# Altium integrated library NSC Analog.IntLib: 134 symbols (part 2 of 4)
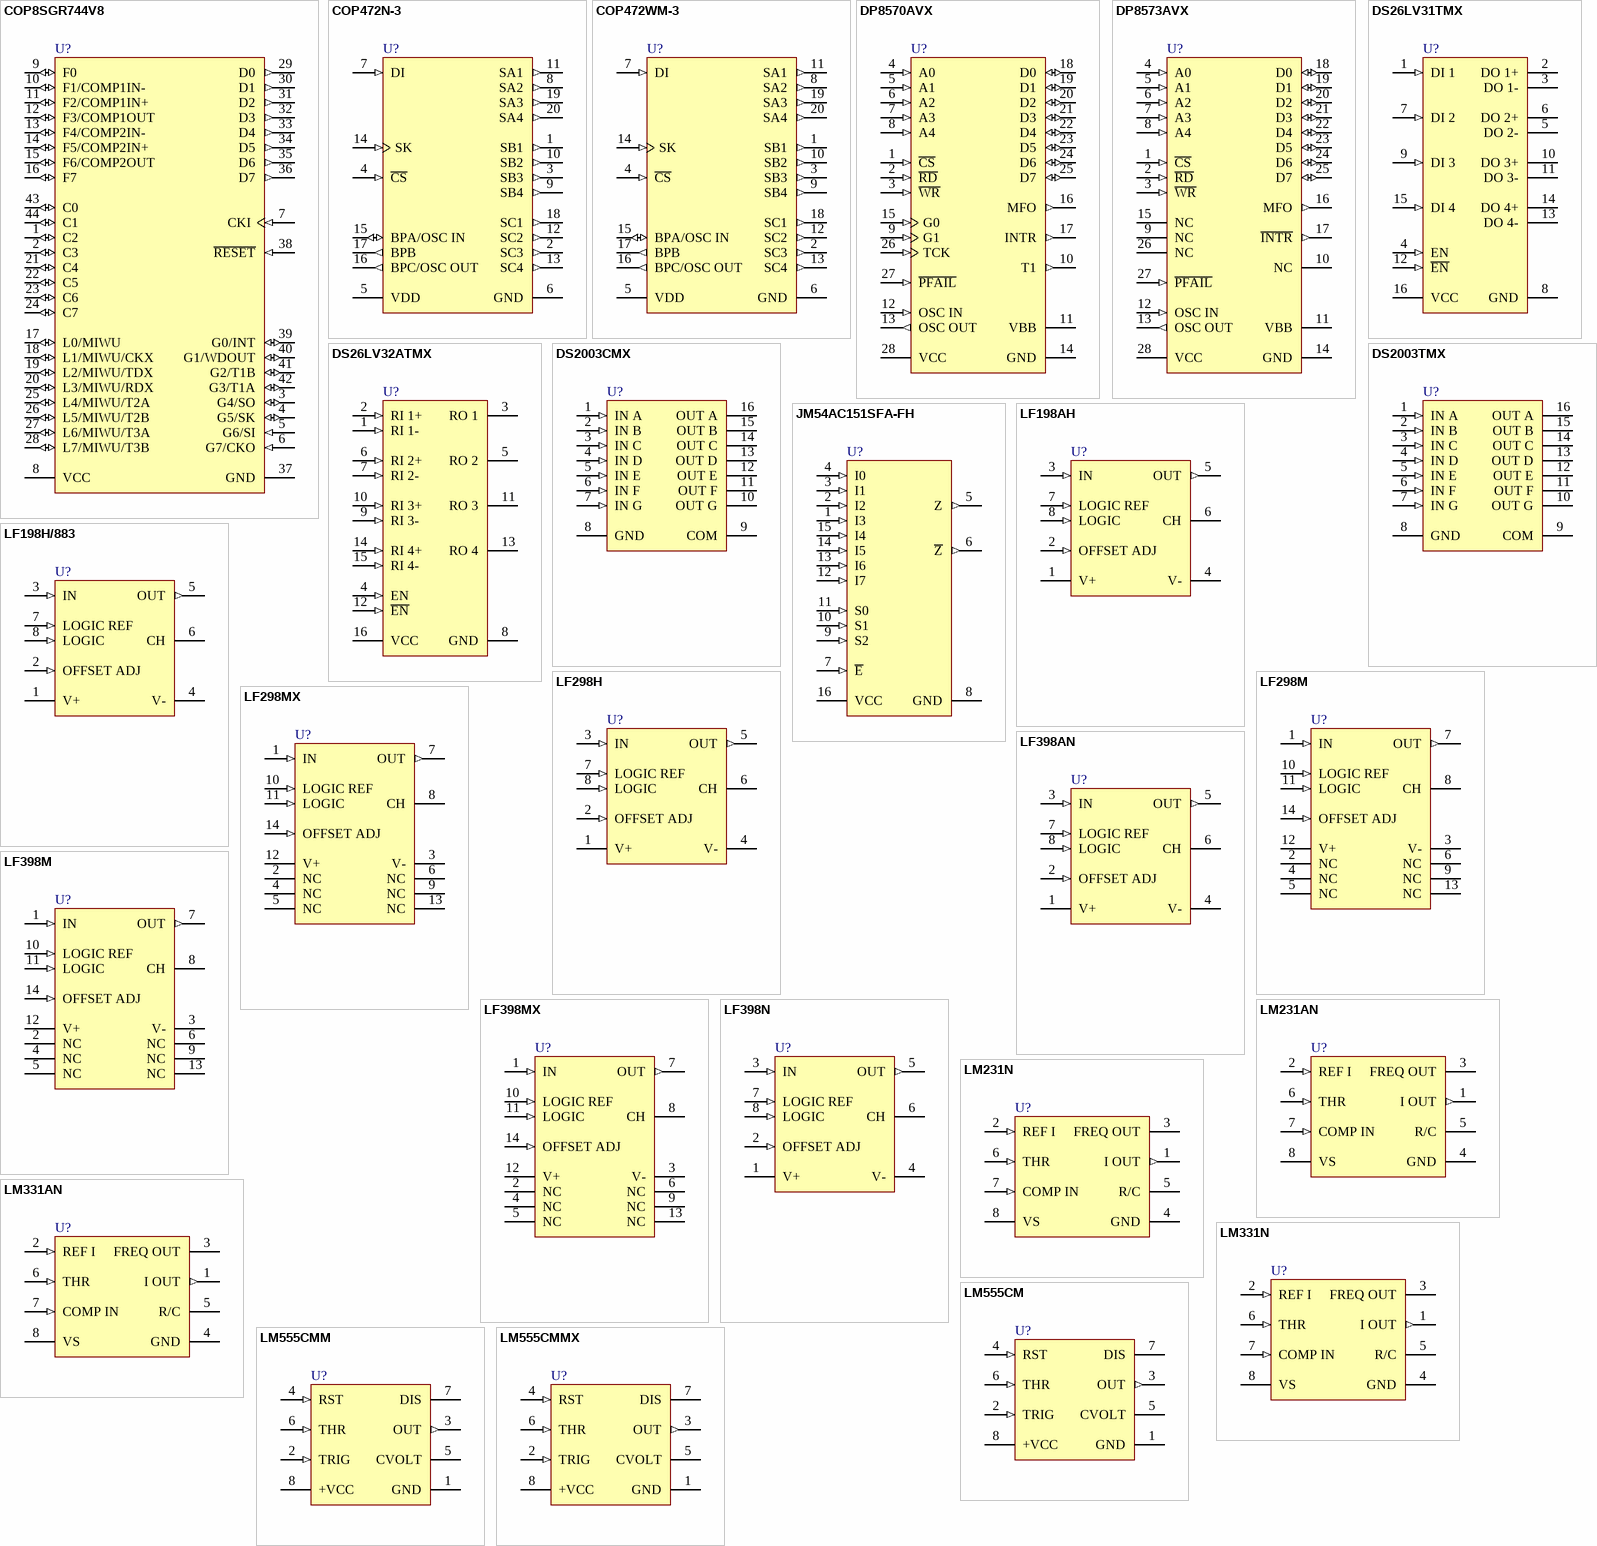
[diagram p7: symbols COP8SGR744V8 to LM555CMMX]

## DS26LV32ATMX
designator U?
3V Enhanced CMOS Quad Differential Line Receiver; PartNumber: DS26LV32ATMX; Manufacturer: National Semiconductor; CompType: Analog IC; PackageTopMarking: NSUZXYTT*DS26LV32A*TM; Published: 4-Dec-2008; DatasheetVersion: Mar-2000; PackageVersion: revJ, Aug-1995; PackageReference: M16A; Publisher: Altium Limited; PackageDescription: Molded Package, SO, .150in Wide, 16 Lead; PinCount: 16; DigiKeyPartNumber: DS26LV32ATMX-ND; Code_JEDEC: MS-012-AC; Code_IPC: SOIC127P600-16; ComponentLink1Description: DS26LV32AT Datasheet; ComponentLink1URL: http://www.national.com/ds.cgi/DS/DS26LV32AT.pdf; ComponentLink2Description: DS26LV32AT Web Page; ComponentLink2URL: http://www.national.com/pf/DS/DS26LV32AT.html; ComponentLink3Description: M16A package page; ComponentLink3URL: http://www.national.com/packaging/folders/m16a.html
footprint M16A_N (SOIC, 16-Leads, Body 9.9x3.9mm, Pitch 1.27mm, IPC Medium Density)
footprint M16A_L (SOIC, 16-Leads, Body 9.9x3.9mm, Pitch 1.27mm, IPC High Density)
footprint M16A_M (SOIC, 16-Leads, Body 9.9x3.9mm, Pitch 1.27mm, IPC Low Density)
pins: 1 RI 1- (in), 2 RI 1+ (in), 3 RO 1 (hiz), 4 EN (in), 5 RO 2 (hiz), 6 RI 2+ (in), 7 RI 2- (in), 8 GND (power), 9 RI 3- (in), 10 RI 3+ (in), 11 RO 3 (hiz), 12 ~{EN} (in), 13 RO 4 (hiz), 14 RI 4+ (in), 15 RI 4- (in), 16 VCC (power)

## DS2003CMX
designator U?
High Current/Voltage Darlington Drivers; PartNumber: DS2003CMX; Manufacturer: National Semiconductor; CompType: Analog IC; PackageTopMarking: NSUZXYTT*DS2003CM; Published: 4-Dec-2008; DatasheetVersion: Mar-2005; PackageVersion: revJ, Aug-1995; PackageReference: M16A; Publisher: Altium Limited; PackageDescription: Molded Package, SO, .150in Wide, 16 Lead; PinCount: 16; DigiKeyPartNumber: DS2003CMXCT-ND; Code_JEDEC: MS-012-AC; Code_IPC: SOIC127P600-16; ComponentLink1Description: DS2003 Datasheet; ComponentLink1URL: http://www.national.com/ds.cgi/DS/DS2003.pdf; ComponentLink2Description: DS2003 Web Page; ComponentLink2URL: http://www.national.com/pf/DS/DS2003.html; ComponentLink3Description: M16A package page; ComponentLink3URL: http://www.national.com/packaging/folders/m16a.html
footprint M16A_N (SOIC, 16-Leads, Body 9.9x3.9mm, Pitch 1.27mm, IPC Medium Density)
footprint M16A_L (SOIC, 16-Leads, Body 9.9x3.9mm, Pitch 1.27mm, IPC High Density)
footprint M16A_M (SOIC, 16-Leads, Body 9.9x3.9mm, Pitch 1.27mm, IPC Low Density)
pins: 1 IN A (in), 2 IN B (in), 3 IN C (in), 4 IN D (in), 5 IN E (in), 6 IN F (in), 7 IN G (in), 8 GND (power), 9 COM, 10 OUT G (oc), 11 OUT F (oc), 12 OUT E (oc), 13 OUT D (oc), 14 OUT C (oc), 15 OUT B (oc), 16 OUT A (oc)

## DS2003TMX
designator U?
High Current/Voltage Darlington Drivers; PartNumber: DS2003TMX; Manufacturer: National Semiconductor; CompType: Analog IC; PackageTopMarking: NSUZXYTT*DS2003TM; Published: 4-Dec-2008; DatasheetVersion: Mar-2005; PackageVersion: revJ, Aug-1995; PackageReference: M16A; Publisher: Altium Limited; PackageDescription: Molded Package, SO, .150in Wide, 16 Lead; PinCount: 16; DigiKeyPartNumber: DS2003TMX-ND; Code_JEDEC: MS-012-AC; Code_IPC: SOIC127P600-16; ComponentLink1Description: DS2003 Datasheet; ComponentLink1URL: http://www.national.com/ds.cgi/DS/DS2003.pdf; ComponentLink2Description: DS2003 Web Page; ComponentLink2URL: http://www.national.com/pf/DS/DS2003.html; ComponentLink3Description: M16A package page; ComponentLink3URL: http://www.national.com/packaging/folders/m16a.html
footprint M16A_N (SOIC, 16-Leads, Body 9.9x3.9mm, Pitch 1.27mm, IPC Medium Density)
footprint M16A_L (SOIC, 16-Leads, Body 9.9x3.9mm, Pitch 1.27mm, IPC High Density)
footprint M16A_M (SOIC, 16-Leads, Body 9.9x3.9mm, Pitch 1.27mm, IPC Low Density)
pins: 1 IN A (in), 2 IN B (in), 3 IN C (in), 4 IN D (in), 5 IN E (in), 6 IN F (in), 7 IN G (in), 8 GND (power), 9 COM, 10 OUT G (oc), 11 OUT F (oc), 12 OUT E (oc), 13 OUT D (oc), 14 OUT C (oc), 15 OUT B (oc), 16 OUT A (oc)

## JM54AC151SFA-FH
designator U?
8-Input Multiplexer; PartNumber: JM54AC151SFA-FH; Manufacturer: National Semiconductor; CompType: Analog IC; PackageTopMarking: NSZSSXXYYA*27014 Q*JM38510F*76201SFA; Published: 4-Dec-2008; DatasheetVersion: Jul-2003; PackageVersion: revT, Jul-2005; PackageReference: W16A; Publisher: Altium Limited; PackageDescription: Cerpack, .390 x .250 x .074in Body, 16 Lead, .050in Pitch; PinCount: 16; Code_JEDEC: MO-092-AC; ComponentLink1Description: 54AC151 Datasheet; ComponentLink1URL: http://www.national.com/ds.cgi/54/54AC151.pdf; ComponentLink2Description: 54AC151 Web Page; ComponentLink2URL: http://www.national.com/pf/54/54AC151.html; ComponentLink3Description: W16A package page; ComponentLink3URL: http://www.national.com/packaging/folders/w16a.html
footprint W16A (DFP; 16 Leads; Body 9.9 x 7.6 mm (LxW max); Pitch 1.27 mm)
pins: 1 I3 (in), 2 I2 (in), 3 I1 (in), 4 I0 (in), 5 Z (out), 6 ~{Z} (out), 7 ~{E} (in), 8 GND (power), 9 S2 (in), 10 S1 (in), 11 S0 (in), 12 I7 (in), 13 I6 (in), 14 I5 (in), 15 I4 (in), 16 VCC (power)

## LF198AH
designator U?
Monolithic Sample-and-Hold Circuits; PartNumber: LF198AH; Manufacturer: National Semiconductor; CompType: Analog IC; PackageTopMarking: NSZXYTTE# LF198AH; Published: 4-Dec-2008; DatasheetVersion: Jul-2000; PackageVersion: revF, Jun-1995; PackageReference: H08C; Publisher: Altium Limited; PackageDescription: Metal Can, TO-99, 8 Lead, .200 Dia., P.C.; PinCount: 8; Code_JEDEC: TO-99; ComponentLink1Description: LF198 Datasheet; ComponentLink1URL: http://www.national.com/ds.cgi/LF/LF198.pdf; ComponentLink2Description: LF198 Web Page; ComponentLink2URL: http://www.national.com/pf/LF/LF198.html; ComponentLink3Description: H08C package page; ComponentLink3URL: http://www.national.com/packaging/folders/h08c.html
footprint H08C (Can; 8 Leads; Pin Circle Dia. 5.08 mm; Lead Dia. 0.48 mm (max))
pins: 1 V+ (power), 2 OFFSET ADJ (in), 3 IN (in), 4 V- (power), 5 OUT (out), 6 CH, 7 LOGIC REF (in), 8 LOGIC (in)

## LF198H/883
designator U?
Monolithic Sample-and-Hold Circuits; PartNumber: LF198H/883; Manufacturer: National Semiconductor; CompType: Analog IC; PackageTopMarking: NSZSSXXYYA LF198H/883 Q*5962-8760801GA; Published: 4-Dec-2008; DatasheetVersion: Jul-2000; PackageVersion: revF, Jun-1995; PackageReference: H08C; Publisher: Altium Limited; PackageDescription: Metal Can, TO-99, 8 Lead, .200 Dia., P.C.; PinCount: 8; Code_JEDEC: TO-99; ComponentLink1Description: LF198 Datasheet; ComponentLink1URL: http://www.national.com/ds.cgi/LF/LF198.pdf; ComponentLink2Description: LF198 Web Page; ComponentLink2URL: http://www.national.com/pf/LF/LF198.html; ComponentLink3Description: H08C package page; ComponentLink3URL: http://www.national.com/packaging/folders/h08c.html
footprint H08C (Can; 8 Leads; Pin Circle Dia. 5.08 mm; Lead Dia. 0.48 mm (max))
pins: 1 V+ (power), 2 OFFSET ADJ (in), 3 IN (in), 4 V- (power), 5 OUT (out), 6 CH, 7 LOGIC REF (in), 8 LOGIC (in)

## LF298H
designator U?
Monolithic Sample-and-Hold Circuits; PartNumber: LF298H; Manufacturer: National Semiconductor; CompType: Analog IC; PackageTopMarking: NSZXYTTE# LF298H; Published: 4-Dec-2008; DatasheetVersion: Jul-2000; PackageVersion: revF, Jun-1995; PackageReference: H08C; Publisher: Altium Limited; PackageDescription: Metal Can, TO-99, 8 Lead, .200 Dia., P.C.; PinCount: 8; Code_JEDEC: TO-99; ComponentLink1Description: LF298 Datasheet; ComponentLink1URL: http://www.national.com/ds.cgi/LF/LF298.pdf; ComponentLink2Description: LF298 Web Page; ComponentLink2URL: http://www.national.com/pf/LF/LF298.html; ComponentLink3Description: H08C package page; ComponentLink3URL: http://www.national.com/packaging/folders/h08c.html
footprint H08C (Can; 8 Leads; Pin Circle Dia. 5.08 mm; Lead Dia. 0.48 mm (max))
pins: 1 V+ (power), 2 OFFSET ADJ (in), 3 IN (in), 4 V- (power), 5 OUT (out), 6 CH, 7 LOGIC REF (in), 8 LOGIC (in)

## LF298M
designator U?
Monolithic Sample-and-Hold Circuits; PartNumber: LF298M; Manufacturer: National Semiconductor; CompType: Analog IC; PackageTopMarking: NSUZXYTT*LF298M; Published: 4-Dec-2008; DatasheetVersion: Jul-2000; PackageVersion: revJ, Jan-1996; PackageReference: M14A; Publisher: Altium Limited; PackageDescription: Molded Package S.O., .150in Wide, 14 Lead; PinCount: 14; DigiKeyPartNumber: LF298M-ND; Code_JEDEC: MS-012AB; Code_IPC: SOIC127P600-14; ComponentLink1Description: LF298 Datasheet; ComponentLink1URL: http://www.national.com/ds.cgi/LF/LF298.pdf; ComponentLink2Description: LF298 Web Page; ComponentLink2URL: http://www.national.com/pf/LF/LF298.html; ComponentLink3Description: M14A package page; ComponentLink3URL: http://www.national.com/packaging/folders/m14a.html
footprint M14A_N (SOIC, 14-Leads, Body 8.6x3.9mm, Pitch 1.27mm, IPC Medium Density)
footprint M14A_L (SOIC, 14-Leads, Body 8.6x3.9mm, Pitch 1.27mm, IPC High Density)
footprint M14A_M (SOIC, 14-Leads, Body 8.6x3.9mm, Pitch 1.27mm, IPC Low Density)
pins: 1 IN (in), 2 NC, 3 V- (power), 4 NC, 5 NC, 6 NC, 7 OUT (out), 8 CH, 9 NC, 10 LOGIC REF (in), 11 LOGIC (in), 12 V+ (power), 13 NC, 14 OFFSET ADJ (in)

## LF298MX
designator U?
Monolithic Sample-and-Hold Circuits; PartNumber: LF298MX; Manufacturer: National Semiconductor; CompType: Analog IC; PackageTopMarking: NSUZXYTT*LF298M; Published: 4-Dec-2008; DatasheetVersion: Jul-2000; PackageVersion: revJ, Jan-1996; PackageReference: M14A; Publisher: Altium Limited; PackageDescription: Molded Package S.O., .150in Wide, 14 Lead; PinCount: 14; DigiKeyPartNumber: LF298MX-ND; Code_JEDEC: MS-012AB; Code_IPC: SOIC127P600-14; ComponentLink1Description: LF298 Datasheet; ComponentLink1URL: http://www.national.com/ds.cgi/LF/LF298.pdf; ComponentLink2Description: LF298 Web Page; ComponentLink2URL: http://www.national.com/pf/LF/LF298.html; ComponentLink3Description: M14A package page; ComponentLink3URL: http://www.national.com/packaging/folders/m14a.html
footprint M14A_N (SOIC, 14-Leads, Body 8.6x3.9mm, Pitch 1.27mm, IPC Medium Density)
footprint M14A_L (SOIC, 14-Leads, Body 8.6x3.9mm, Pitch 1.27mm, IPC High Density)
footprint M14A_M (SOIC, 14-Leads, Body 8.6x3.9mm, Pitch 1.27mm, IPC Low Density)
pins: 1 IN (in), 2 NC, 3 V- (power), 4 NC, 5 NC, 6 NC, 7 OUT (out), 8 CH, 9 NC, 10 LOGIC REF (in), 11 LOGIC (in), 12 V+ (power), 13 NC, 14 OFFSET ADJ (in)

## LF398AN
designator U?
Monolithic Sample-and-Hold Circuits; PartNumber: LF398AN; Manufacturer: National Semiconductor; CompType: Analog IC; PackageTopMarking: NSUZXYTT*LF*398AN; Published: 4-Dec-2008; DatasheetVersion: Jul-2000; PackageVersion: revG, May-2006; PackageReference: N08E; Publisher: Altium Limited; PackageDescription: MDIP, .365 x .250 x .130in, 8 Lead, .100in Pitch; PinCount: 8; DigiKeyPartNumber: LF398AN-ND; Code_JEDEC: MS-001-BA; ComponentLink1Description: LF398 Datasheet; ComponentLink1URL: http://www.national.com/ds.cgi/LF/LF398.pdf; ComponentLink2Description: LF398 Web Page; ComponentLink2URL: http://www.national.com/pf/LF/LF398.html; ComponentLink3Description: N08E package page; ComponentLink3URL: http://www.national.com/packaging/folders/n08e.html
footprint N08E (DIP, 8-Leads, Row Spacing 7.62mm, Pitch 2.54mm, Body 9.91x6.35mm)
pins: 1 V+ (power), 2 OFFSET ADJ (in), 3 IN (in), 4 V- (power), 5 OUT (out), 6 CH, 7 LOGIC REF (in), 8 LOGIC (in)

## LF398M
designator U?
Monolithic Sample-and-Hold Circuits; PartNumber: LF398M; Manufacturer: National Semiconductor; CompType: Analog IC; PackageTopMarking: NSUZXYTT*LF398M; Published: 4-Dec-2008; DatasheetVersion: Jul-2000; PackageVersion: revJ, Jan-1996; PackageReference: M14A; Publisher: Altium Limited; PackageDescription: Molded Package S.O., .150in Wide, 14 Lead; PinCount: 14; DigiKeyPartNumber: LF398M-ND; Code_JEDEC: MS-012AB; Code_IPC: SOIC127P600-14; ComponentLink1Description: LF398 Datasheet; ComponentLink1URL: http://www.national.com/ds.cgi/LF/LF398.pdf; ComponentLink2Description: LF398 Web Page; ComponentLink2URL: http://www.national.com/pf/LF/LF398.html; ComponentLink3Description: M14A package page; ComponentLink3URL: http://www.national.com/packaging/folders/m14a.html
footprint M14A_N (SOIC, 14-Leads, Body 8.6x3.9mm, Pitch 1.27mm, IPC Medium Density)
footprint M14A_L (SOIC, 14-Leads, Body 8.6x3.9mm, Pitch 1.27mm, IPC High Density)
footprint M14A_M (SOIC, 14-Leads, Body 8.6x3.9mm, Pitch 1.27mm, IPC Low Density)
pins: 1 IN (in), 2 NC, 3 V- (power), 4 NC, 5 NC, 6 NC, 7 OUT (out), 8 CH, 9 NC, 10 LOGIC REF (in), 11 LOGIC (in), 12 V+ (power), 13 NC, 14 OFFSET ADJ (in)

## LF398MX
designator U?
Monolithic Sample-and-Hold Circuits; PartNumber: LF398MX; Manufacturer: National Semiconductor; CompType: Analog IC; PackageTopMarking: NSUZXYTT*LF398M; Published: 4-Dec-2008; DatasheetVersion: Jul-2000; PackageVersion: revJ, Jan-1996; PackageReference: M14A; Publisher: Altium Limited; PackageDescription: Molded Package S.O., .150in Wide, 14 Lead; PinCount: 14; DigiKeyPartNumber: LF398MX-ND; Code_JEDEC: MS-012AB; Code_IPC: SOIC127P600-14; ComponentLink1Description: LF398 Datasheet; ComponentLink1URL: http://www.national.com/ds.cgi/LF/LF398.pdf; ComponentLink2Description: LF398 Web Page; ComponentLink2URL: http://www.national.com/pf/LF/LF398.html; ComponentLink3Description: M14A package page; ComponentLink3URL: http://www.national.com/packaging/folders/m14a.html
footprint M14A_N (SOIC, 14-Leads, Body 8.6x3.9mm, Pitch 1.27mm, IPC Medium Density)
footprint M14A_L (SOIC, 14-Leads, Body 8.6x3.9mm, Pitch 1.27mm, IPC High Density)
footprint M14A_M (SOIC, 14-Leads, Body 8.6x3.9mm, Pitch 1.27mm, IPC Low Density)
pins: 1 IN (in), 2 NC, 3 V- (power), 4 NC, 5 NC, 6 NC, 7 OUT (out), 8 CH, 9 NC, 10 LOGIC REF (in), 11 LOGIC (in), 12 V+ (power), 13 NC, 14 OFFSET ADJ (in)

## LF398N
designator U?
Monolithic Sample-and-Hold Circuits; PartNumber: LF398N; Manufacturer: National Semiconductor; CompType: Analog IC; PackageTopMarking: NSUZXYTT*LF*398N; Published: 4-Dec-2008; DatasheetVersion: Jul-2000; PackageVersion: revG, May-2006; PackageReference: N08E; Publisher: Altium Limited; PackageDescription: MDIP, .365 x .250 x .130in, 8 Lead, .100in Pitch; PinCount: 8; DigiKeyPartNumber: LF398N-ND; Code_JEDEC: MS-001-BA; ComponentLink1Description: LF398 Datasheet; ComponentLink1URL: http://www.national.com/ds.cgi/LF/LF398.pdf; ComponentLink2Description: LF398 Web Page; ComponentLink2URL: http://www.national.com/pf/LF/LF398.html; ComponentLink3Description: N08E package page; ComponentLink3URL: http://www.national.com/packaging/folders/n08e.html
footprint N08E (DIP, 8-Leads, Row Spacing 7.62mm, Pitch 2.54mm, Body 9.91x6.35mm)
pins: 1 V+ (power), 2 OFFSET ADJ (in), 3 IN (in), 4 V- (power), 5 OUT (out), 6 CH, 7 LOGIC REF (in), 8 LOGIC (in)

## LM231AN
designator U?
Precision Voltage-to-Frequency Converters; PartNumber: LM231AN; Manufacturer: National Semiconductor; CompType: Analog IC; PackageTopMarking: NSUZXYTT*LM*231AN; Published: 4-Dec-2008; DatasheetVersion: Apr-2006; PackageVersion: revG, May-2006; PackageReference: N08E; Publisher: Altium Limited; PackageDescription: MDIP, .365 x .250 x .130in, 8 Lead, .100in Pitch; PinCount: 8; DigiKeyPartNumber: LM231AN-ND; Code_JEDEC: MS-001-BA; ComponentLink1Description: LM231 Datasheet; ComponentLink1URL: http://www.national.com/ds.cgi/LM/LM231.pdf; ComponentLink2Description: LM231 Web Page; ComponentLink2URL: http://www.national.com/pf/LM/LM231.html; ComponentLink3Description: N08E package page; ComponentLink3URL: http://www.national.com/packaging/folders/n08e.html
footprint N08E (DIP, 8-Leads, Row Spacing 7.62mm, Pitch 2.54mm, Body 9.91x6.35mm)
pins: 1 I OUT (out), 2 REF I (in), 3 FREQ OUT (oc), 4 GND (power), 5 R/C, 6 THR (in), 7 COMP IN (in), 8 VS (power)

## LM231N
designator U?
Precision Voltage-to-Frequency Converters; PartNumber: LM231N; Manufacturer: National Semiconductor; CompType: Analog IC; PackageTopMarking: NSUZXYTT*LM*231N; Published: 4-Dec-2008; DatasheetVersion: Apr-2006; PackageVersion: revG, May-2006; PackageReference: N08E; Publisher: Altium Limited; PackageDescription: MDIP, .365 x .250 x .130in, 8 Lead, .100in Pitch; PinCount: 8; DigiKeyPartNumber: LM231N-ND; Code_JEDEC: MS-001-BA; ComponentLink1Description: LM231 Datasheet; ComponentLink1URL: http://www.national.com/ds.cgi/LM/LM231.pdf; ComponentLink2Description: LM231 Web Page; ComponentLink2URL: http://www.national.com/pf/LM/LM231.html; ComponentLink3Description: N08E package page; ComponentLink3URL: http://www.national.com/packaging/folders/n08e.html
footprint N08E (DIP, 8-Leads, Row Spacing 7.62mm, Pitch 2.54mm, Body 9.91x6.35mm)
pins: 1 I OUT (out), 2 REF I (in), 3 FREQ OUT (oc), 4 GND (power), 5 R/C, 6 THR (in), 7 COMP IN (in), 8 VS (power)

## LM331AN
designator U?
Precision Voltage-to-Frequency Converters; PartNumber: LM331AN; Manufacturer: National Semiconductor; CompType: Analog IC; PackageTopMarking: NSUZXYTT*LM*331AN; Published: 4-Dec-2008; DatasheetVersion: Apr-2006; PackageVersion: revG, May-2006; PackageReference: N08E; Publisher: Altium Limited; PackageDescription: MDIP, .365 x .250 x .130in, 8 Lead, .100in Pitch; PinCount: 8; DigiKeyPartNumber: LM331AN-ND; Code_JEDEC: MS-001-BA; ComponentLink1Description: LM331 Datasheet; ComponentLink1URL: http://www.national.com/ds.cgi/LM/LM331.pdf; ComponentLink2Description: LM331 Web Page; ComponentLink2URL: http://www.national.com/pf/LM/LM331.html; ComponentLink3Description: N08E package page; ComponentLink3URL: http://www.national.com/packaging/folders/n08e.html
footprint N08E (DIP, 8-Leads, Row Spacing 7.62mm, Pitch 2.54mm, Body 9.91x6.35mm)
pins: 1 I OUT (out), 2 REF I (in), 3 FREQ OUT (oc), 4 GND (power), 5 R/C, 6 THR (in), 7 COMP IN (in), 8 VS (power)

## LM331N
designator U?
Precision Voltage-to-Frequency Converters; PartNumber: LM331N; Manufacturer: National Semiconductor; CompType: Analog IC; PackageTopMarking: NSUZXYTT*LM*331N; Published: 4-Dec-2008; DatasheetVersion: Apr-2006; PackageVersion: revG, May-2006; PackageReference: N08E; Publisher: Altium Limited; PackageDescription: MDIP, .365 x .250 x .130in, 8 Lead, .100in Pitch; PinCount: 8; DigiKeyPartNumber: LM331N-ND; Code_JEDEC: MS-001-BA; ComponentLink1Description: LM331 Datasheet; ComponentLink1URL: http://www.national.com/ds.cgi/LM/LM331.pdf; ComponentLink2Description: LM331 Web Page; ComponentLink2URL: http://www.national.com/pf/LM/LM331.html; ComponentLink3Description: N08E package page; ComponentLink3URL: http://www.national.com/packaging/folders/n08e.html
footprint N08E (DIP, 8-Leads, Row Spacing 7.62mm, Pitch 2.54mm, Body 9.91x6.35mm)
pins: 1 I OUT (out), 2 REF I (in), 3 FREQ OUT (oc), 4 GND (power), 5 R/C, 6 THR (in), 7 COMP IN (in), 8 VS (power)

## LM555CM
designator U?
Timer; PartNumber: LM555CM; Manufacturer: National Semiconductor; CompType: Analog IC; PackageTopMarking: NSZXTT*LM*555CM; Published: 4-Dec-2008; DatasheetVersion: Jul-2006; PackageVersion: revL, Sep-2006; PackageReference: M08A; Publisher: Altium Limited; PackageDescription: SOIC Narrow, 4.9 x 3.9 x 1.45mm, 8 Lead, 1.27mm Pitch; PinCount: 8; DigiKeyPartNumber: LM555CM-ND; Code_JEDEC: MS-012-AA; Code_IPC: SOIC127P600-8; ComponentLink1Description: LM555 Datasheet; ComponentLink1URL: http://www.national.com/ds.cgi/LM/LM555.pdf; ComponentLink2Description: LM555 Web Page; ComponentLink2URL: http://www.national.com/pf/LM/LM555.html; ComponentLink3Description: M08A package page; ComponentLink3URL: http://www.national.com/packaging/folders/m08a.html
footprint M08A_N (SOIC, 8-Leads, Body 4.9x3.9mm, Pitch 1.27mm, IPC Medium Density)
footprint M08A_L (SOIC, 8-Leads, Body 4.9x3.9mm, Pitch 1.27mm, IPC High Density)
footprint M08A_M (SOIC, 8-Leads, Body 4.9x3.9mm, Pitch 1.27mm, IPC Low Density)
pins: 1 GND (power), 2 TRIG (in), 3 OUT (out), 4 RST (in), 5 CVOLT, 6 THR (in), 7 DIS (oc), 8 +VCC (power)

## LM555CMM
designator U?
Timer; PartNumber: LM555CMM; Manufacturer: National Semiconductor; CompType: Analog IC; PackageTopMarking: ZXTT*Z55; Published: 4-Dec-2008; DatasheetVersion: Jul-2006; PackageVersion: revF, Apr-2008; PackageReference: MUA08A; Publisher: Altium Limited; PackageDescription: MINI SOIC, .118 x .118 x .034in, 8 Lead, .0256in Pitch; PinCount: 8; DigiKeyPartNumber: LM555CMMCT-ND; Code_JEDEC: MO-187-AA; ComponentLink1Description: LM555 Datasheet; ComponentLink1URL: http://www.national.com/ds.cgi/LM/LM555.pdf; ComponentLink2Description: LM555 Web Page; ComponentLink2URL: http://www.national.com/pf/LM/LM555.html; ComponentLink3Description: MUA08A package page; ComponentLink3URL: http://www.national.com/packaging/folders/mua08a.html
footprint MUA08A_N (TSOP, 8-Leads, Body 3x3mm, Pitch 0.65mm, IPC Medium Density)
footprint MUA08A_L (TSOP, 8-Leads, Body 3x3mm, Pitch 0.65mm, IPC High Density)
footprint MUA08A_M (TSOP, 8-Leads, Body 3x3mm, Pitch 0.65mm, IPC Low Density)
pins: 1 GND (power), 2 TRIG (in), 3 OUT (out), 4 RST (in), 5 CVOLT, 6 THR (in), 7 DIS (oc), 8 +VCC (power)

## LM555CMMX
designator U?
Timer; PartNumber: LM555CMMX; Manufacturer: National Semiconductor; CompType: Analog IC; PackageTopMarking: ZXTT*Z55; Published: 4-Dec-2008; DatasheetVersion: Jul-2006; PackageVersion: revF, Apr-2008; PackageReference: MUA08A; Publisher: Altium Limited; PackageDescription: MINI SOIC, .118 x .118 x .034in, 8 Lead, .0256in Pitch; PinCount: 8; DigiKeyPartNumber: LM555CMMX-ND; Code_JEDEC: MO-187-AA; ComponentLink1Description: LM555 Datasheet; ComponentLink1URL: http://www.national.com/ds.cgi/LM/LM555.pdf; ComponentLink2Description: LM555 Web Page; ComponentLink2URL: http://www.national.com/pf/LM/LM555.html; ComponentLink3Description: MUA08A package page; ComponentLink3URL: http://www.national.com/packaging/folders/mua08a.html
footprint MUA08A_N (TSOP, 8-Leads, Body 3x3mm, Pitch 0.65mm, IPC Medium Density)
footprint MUA08A_L (TSOP, 8-Leads, Body 3x3mm, Pitch 0.65mm, IPC High Density)
footprint MUA08A_M (TSOP, 8-Leads, Body 3x3mm, Pitch 0.65mm, IPC Low Density)
pins: 1 GND (power), 2 TRIG (in), 3 OUT (out), 4 RST (in), 5 CVOLT, 6 THR (in), 7 DIS (oc), 8 +VCC (power)

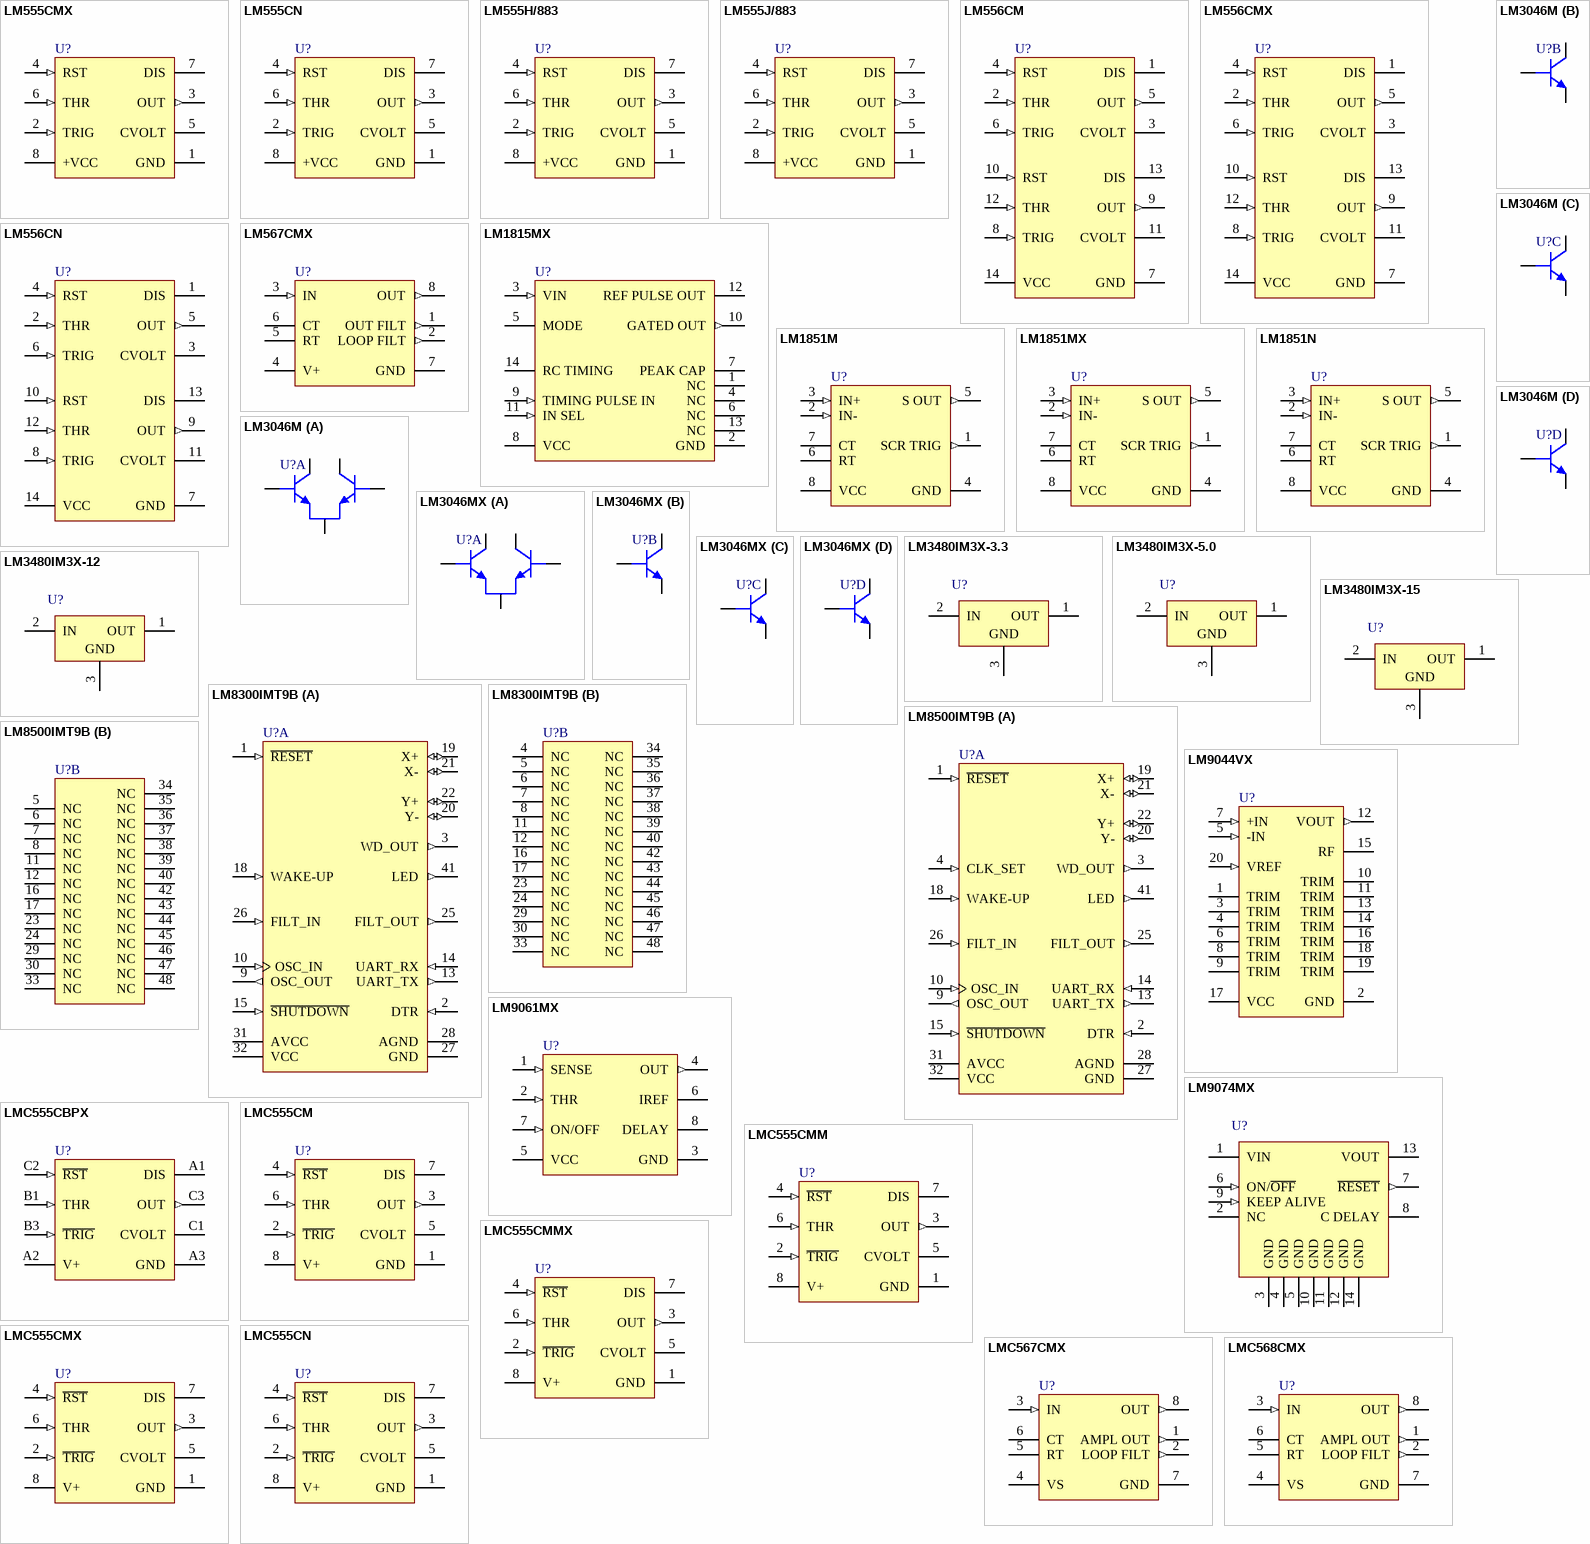
[diagram p3: symbols LM555CMX to LMC568CMX]

## LM555CMX
designator U?
Timer; PartNumber: LM555CMX; Manufacturer: National Semiconductor; CompType: Analog IC; PackageTopMarking: NSZXTT*LM*555CM; Published: 4-Dec-2008; DatasheetVersion: Jul-2006; PackageVersion: revL, Sep-2006; PackageReference: M08A; Publisher: Altium Limited; PackageDescription: SOIC Narrow, 4.9 x 3.9 x 1.45mm, 8 Lead, 1.27mm Pitch; PinCount: 8; DigiKeyPartNumber: LM555CMXCT-ND; Code_JEDEC: MS-012-AA; Code_IPC: SOIC127P600-8; ComponentLink1Description: LM555 Datasheet; ComponentLink1URL: http://www.national.com/ds.cgi/LM/LM555.pdf; ComponentLink2Description: LM555 Web Page; ComponentLink2URL: http://www.national.com/pf/LM/LM555.html; ComponentLink3Description: M08A package page; ComponentLink3URL: http://www.national.com/packaging/folders/m08a.html
footprint M08A_N (SOIC, 8-Leads, Body 4.9x3.9mm, Pitch 1.27mm, IPC Medium Density)
footprint M08A_L (SOIC, 8-Leads, Body 4.9x3.9mm, Pitch 1.27mm, IPC High Density)
footprint M08A_M (SOIC, 8-Leads, Body 4.9x3.9mm, Pitch 1.27mm, IPC Low Density)
pins: 1 GND (power), 2 TRIG (in), 3 OUT (out), 4 RST (in), 5 CVOLT, 6 THR (in), 7 DIS (oc), 8 +VCC (power)

## LM555CN
designator U?
Timer; PartNumber: LM555CN; Manufacturer: National Semiconductor; CompType: Analog IC; PackageTopMarking: NSUZXYTT*LM*555CN; Published: 4-Dec-2008; DatasheetVersion: Jul-2006; PackageVersion: revG, May-2006; PackageReference: N08E; Publisher: Altium Limited; PackageDescription: MDIP, .365 x .250 x .130in, 8 Lead, .100in Pitch; PinCount: 8; DigiKeyPartNumber: LM555CNNS-ND; Code_JEDEC: MS-001-BA; ComponentLink1Description: LM555 Datasheet; ComponentLink1URL: http://www.national.com/ds.cgi/LM/LM555.pdf; ComponentLink2Description: LM555 Web Page; ComponentLink2URL: http://www.national.com/pf/LM/LM555.html; ComponentLink3Description: N08E package page; ComponentLink3URL: http://www.national.com/packaging/folders/n08e.html
footprint N08E (DIP, 8-Leads, Row Spacing 7.62mm, Pitch 2.54mm, Body 9.91x6.35mm)
pins: 1 GND (power), 2 TRIG (in), 3 OUT (out), 4 RST (in), 5 CVOLT, 6 THR (in), 7 DIS (oc), 8 +VCC (power)

## LM555H/883
designator U?
Timer; PartNumber: LM555H/883; Manufacturer: National Semiconductor; CompType: Analog IC; PackageTopMarking: NSZSSXXYYA LM555H/883 Q; Published: 4-Dec-2008; DatasheetVersion: Jul-2006; PackageVersion: revF, Jun-1995; PackageReference: H08C; Publisher: Altium Limited; PackageDescription: Metal Can, TO-99, 8 Lead, .200 Dia., P.C.; PinCount: 8; Code_JEDEC: TO-99; ComponentLink1Description: LM555 Datasheet; ComponentLink1URL: http://www.national.com/ds.cgi/LM/LM555.pdf; ComponentLink2Description: LM555 Web Page; ComponentLink2URL: http://www.national.com/pf/LM/LM555.html; ComponentLink3Description: H08C package page; ComponentLink3URL: http://www.national.com/packaging/folders/h08c.html
footprint H08C (Can; 8 Leads; Pin Circle Dia. 5.08 mm; Lead Dia. 0.48 mm (max))
pins: 1 GND (power), 2 TRIG (in), 3 OUT (out), 4 RST (in), 5 CVOLT, 6 THR (in), 7 DIS (oc), 8 +VCC (power)

## LM555J/883
designator U?
Timer; PartNumber: LM555J/883; Manufacturer: National Semiconductor; CompType: Analog IC; PackageTopMarking: NSZSSXXYYA*LM555J/*883 Q; Published: 4-Dec-2008; DatasheetVersion: Jul-2006; PackageVersion: revM, Jul-2002; PackageReference: J08A; Publisher: Altium Limited; PackageDescription: Cerdip, .400 x .310in Body, 8 Lead, .300in Centers, .100in Pitch; PinCount: 8; ComponentLink1Description: LM555 Datasheet; ComponentLink1URL: http://www.national.com/ds.cgi/LM/LM555.pdf; ComponentLink2Description: LM555 Web Page; ComponentLink2URL: http://www.national.com/pf/LM/LM555.html; ComponentLink3Description: J08A package page; ComponentLink3URL: http://www.national.com/packaging/folders/j08a.html
footprint J08A (DIP, 8-Leads, Row Spacing 7.62mm, Pitch 2.54mm, Body 9.78x6.73mm)
pins: 1 GND (power), 2 TRIG (in), 3 OUT (out), 4 RST (in), 5 CVOLT, 6 THR (in), 7 DIS (oc), 8 +VCC (power)

## LM556CM
designator U?
Dual Timer; PartNumber: LM556CM; Manufacturer: National Semiconductor; CompType: Analog IC; PackageTopMarking: NSUZXYTT*LM556CM; Published: 4-Dec-2008; DatasheetVersion: Mar-2000; PackageVersion: revJ, Jan-1996; PackageReference: M14A; Publisher: Altium Limited; PackageDescription: Molded Package S.O., .150in Wide, 14 Lead; PinCount: 14; DigiKeyPartNumber: LM556CM-ND; Code_JEDEC: MS-012AB; Code_IPC: SOIC127P600-14; ComponentLink1Description: LM556 Datasheet; ComponentLink1URL: http://www.national.com/ds.cgi/LM/LM556.pdf; ComponentLink2Description: LM556 Web Page; ComponentLink2URL: http://www.national.com/pf/LM/LM556.html; ComponentLink3Description: M14A package page; ComponentLink3URL: http://www.national.com/packaging/folders/m14a.html
footprint M14A_N (SOIC, 14-Leads, Body 8.6x3.9mm, Pitch 1.27mm, IPC Medium Density)
footprint M14A_L (SOIC, 14-Leads, Body 8.6x3.9mm, Pitch 1.27mm, IPC High Density)
footprint M14A_M (SOIC, 14-Leads, Body 8.6x3.9mm, Pitch 1.27mm, IPC Low Density)
pins: 1 DIS (oc), 2 THR (in), 3 CVOLT, 4 RST (in), 5 OUT (out), 6 TRIG (in), 7 GND (power), 8 TRIG (in), 9 OUT (out), 10 RST (in), 11 CVOLT, 12 THR (in), 13 DIS (oc), 14 VCC (power)

## LM556CMX
designator U?
Dual Timer; PartNumber: LM556CMX; Manufacturer: National Semiconductor; CompType: Analog IC; PackageTopMarking: NSUZXYTT*LM556CM; Published: 4-Dec-2008; DatasheetVersion: Mar-2000; PackageVersion: revJ, Jan-1996; PackageReference: M14A; Publisher: Altium Limited; PackageDescription: Molded Package S.O., .150in Wide, 14 Lead; PinCount: 14; DigiKeyPartNumber: LM556CMXCT-ND; Code_JEDEC: MS-012AB; Code_IPC: SOIC127P600-14; ComponentLink1Description: LM556 Datasheet; ComponentLink1URL: http://www.national.com/ds.cgi/LM/LM556.pdf; ComponentLink2Description: LM556 Web Page; ComponentLink2URL: http://www.national.com/pf/LM/LM556.html; ComponentLink3Description: M14A package page; ComponentLink3URL: http://www.national.com/packaging/folders/m14a.html
footprint M14A_N (SOIC, 14-Leads, Body 8.6x3.9mm, Pitch 1.27mm, IPC Medium Density)
footprint M14A_L (SOIC, 14-Leads, Body 8.6x3.9mm, Pitch 1.27mm, IPC High Density)
footprint M14A_M (SOIC, 14-Leads, Body 8.6x3.9mm, Pitch 1.27mm, IPC Low Density)
pins: 1 DIS (oc), 2 THR (in), 3 CVOLT, 4 RST (in), 5 OUT (out), 6 TRIG (in), 7 GND (power), 8 TRIG (in), 9 OUT (out), 10 RST (in), 11 CVOLT, 12 THR (in), 13 DIS (oc), 14 VCC (power)

## LM556CN
designator U?
Dual Timer; PartNumber: LM556CN; Manufacturer: National Semiconductor; CompType: Analog IC; PackageTopMarking: NSUZXYYTTE#*LM556CN; Published: 4-Dec-2008; DatasheetVersion: Mar-2000; PackageVersion: revG, May-2006; PackageReference: N14A; Publisher: Altium Limited; PackageDescription: MDIP, .750 x .250 x.130in, 14 Lead, .100in Pitch; PinCount: 14; DigiKeyPartNumber: LM556CN-ND; Code_JEDEC: MS-001-AA; ComponentLink1Description: LM556 Datasheet; ComponentLink1URL: http://www.national.com/ds.cgi/LM/LM556.pdf; ComponentLink2Description: LM556 Web Page; ComponentLink2URL: http://www.national.com/pf/LM/LM556.html; ComponentLink3Description: N14A package page; ComponentLink3URL: http://www.national.com/packaging/folders/n14a.html
footprint N14A (DIP, 14-Leads, Row Spacing 7.62mm, Pitch 2.54mm, Body 19.56x6.35mm)
pins: 1 DIS (oc), 2 THR (in), 3 CVOLT, 4 RST (in), 5 OUT (out), 6 TRIG (in), 7 GND (power), 8 TRIG (in), 9 OUT (out), 10 RST (in), 11 CVOLT, 12 THR (in), 13 DIS (oc), 14 VCC (power)

## LM567CMX
designator U?
Tone Decoder; PartNumber: LM567CMX; Manufacturer: National Semiconductor; CompType: Analog IC; PackageTopMarking: NSZXTT*LM*567CM; Published: 4-Dec-2008; DatasheetVersion: Feb-2003; PackageVersion: revL, Sep-2006; PackageReference: M08A; Publisher: Altium Limited; PackageDescription: SOIC Narrow, 4.9 x 3.9 x 1.45mm, 8 Lead, 1.27mm Pitch; PinCount: 8; DigiKeyPartNumber: LM567CMXTR-ND; Code_JEDEC: MS-012-AA; Code_IPC: SOIC127P600-8; ComponentLink1Description: LM567C Datasheet; ComponentLink1URL: http://www.national.com/ds.cgi/LM/LM567C.pdf; ComponentLink2Description: LM567C Web Page; ComponentLink2URL: http://www.national.com/pf/LM/LM567C.html; ComponentLink3Description: M08A package page; ComponentLink3URL: http://www.national.com/packaging/folders/m08a.html
footprint M08A_N (SOIC, 8-Leads, Body 4.9x3.9mm, Pitch 1.27mm, IPC Medium Density)
footprint M08A_L (SOIC, 8-Leads, Body 4.9x3.9mm, Pitch 1.27mm, IPC High Density)
footprint M08A_M (SOIC, 8-Leads, Body 4.9x3.9mm, Pitch 1.27mm, IPC Low Density)
pins: 1 OUT FILT (out), 2 LOOP FILT (out), 3 IN (in), 4 V+ (power), 5 RT, 6 CT, 7 GND (power), 8 OUT (out)

## LM1815MX
designator U?
Adaptive Variable Reluctance Sensor Amplifier; PartNumber: LM1815MX; Manufacturer: National Semiconductor; CompType: Analog IC; PackageTopMarking: NSUZXYTT*LM1815M; Published: 4-Dec-2008; DatasheetVersion: Mar-2005; PackageVersion: revJ, Jan-1996; PackageReference: M14A; Publisher: Altium Limited; PackageDescription: Molded Package S.O., .150in Wide, 14 Lead; PinCount: 14; DigiKeyPartNumber: LM1815MX-ND; Code_JEDEC: MS-012AB; Code_IPC: SOIC127P600-14; ComponentLink1Description: LM1815 Datasheet; ComponentLink1URL: http://www.national.com/ds.cgi/LM/LM1815.pdf; ComponentLink2Description: LM1815 Web Page; ComponentLink2URL: http://www.national.com/pf/LM/LM1815.html; ComponentLink3Description: M14A package page; ComponentLink3URL: http://www.national.com/packaging/folders/m14a.html
footprint M14A_N (SOIC, 14-Leads, Body 8.6x3.9mm, Pitch 1.27mm, IPC Medium Density)
footprint M14A_L (SOIC, 14-Leads, Body 8.6x3.9mm, Pitch 1.27mm, IPC High Density)
footprint M14A_M (SOIC, 14-Leads, Body 8.6x3.9mm, Pitch 1.27mm, IPC Low Density)
pins: 1 NC, 2 GND (power), 3 VIN (in), 4 NC, 5 MODE, 6 NC, 7 PEAK CAP, 8 VCC (power), 9 TIMING PULSE IN (in), 10 GATED OUT (out), 11 IN SEL (in), 12 REF PULSE OUT (oc), 13 NC, 14 RC TIMING

## LM1851M
designator U?
Ground Fault Interrupter; PartNumber: LM1851M; Manufacturer: National Semiconductor; CompType: Analog IC; PackageTopMarking: NSZXTT*LM*1851M; Published: 4-Dec-2008; DatasheetVersion: Jun-1992; PackageVersion: revL, Sep-2006; PackageReference: M08A; Publisher: Altium Limited; PackageDescription: SOIC Narrow, 4.9 x 3.9 x 1.45mm, 8 Lead, 1.27mm Pitch; PinCount: 8; DigiKeyPartNumber: LM1851M-ND; Code_JEDEC: MS-012-AA; Code_IPC: SOIC127P600-8; ComponentLink1Description: LM1851 Datasheet; ComponentLink1URL: http://www.national.com/ds.cgi/LM/LM1851.pdf; ComponentLink2Description: LM1851 Web Page; ComponentLink2URL: http://www.national.com/pf/LM/LM1851.html; ComponentLink3Description: M08A package page; ComponentLink3URL: http://www.national.com/packaging/folders/m08a.html
footprint M08A_N (SOIC, 8-Leads, Body 4.9x3.9mm, Pitch 1.27mm, IPC Medium Density)
footprint M08A_L (SOIC, 8-Leads, Body 4.9x3.9mm, Pitch 1.27mm, IPC High Density)
footprint M08A_M (SOIC, 8-Leads, Body 4.9x3.9mm, Pitch 1.27mm, IPC Low Density)
pins: 1 SCR TRIG (out), 2 IN- (in), 3 IN+ (in), 4 GND (power), 5 S OUT (out), 6 RT, 7 CT, 8 VCC (power)

## LM1851MX
designator U?
Ground Fault Interrupter; PartNumber: LM1851MX; Manufacturer: National Semiconductor; CompType: Analog IC; PackageTopMarking: NSZXTT*LM*1851M; Published: 4-Dec-2008; DatasheetVersion: Jun-1992; PackageVersion: revL, Sep-2006; PackageReference: M08A; Publisher: Altium Limited; PackageDescription: SOIC Narrow, 4.9 x 3.9 x 1.45mm, 8 Lead, 1.27mm Pitch; PinCount: 8; DigiKeyPartNumber: LM1851MX-ND; Code_JEDEC: MS-012-AA; Code_IPC: SOIC127P600-8; ComponentLink1Description: LM1851 Datasheet; ComponentLink1URL: http://www.national.com/ds.cgi/LM/LM1851.pdf; ComponentLink2Description: LM1851 Web Page; ComponentLink2URL: http://www.national.com/pf/LM/LM1851.html; ComponentLink3Description: M08A package page; ComponentLink3URL: http://www.national.com/packaging/folders/m08a.html
footprint M08A_N (SOIC, 8-Leads, Body 4.9x3.9mm, Pitch 1.27mm, IPC Medium Density)
footprint M08A_L (SOIC, 8-Leads, Body 4.9x3.9mm, Pitch 1.27mm, IPC High Density)
footprint M08A_M (SOIC, 8-Leads, Body 4.9x3.9mm, Pitch 1.27mm, IPC Low Density)
pins: 1 SCR TRIG (out), 2 IN- (in), 3 IN+ (in), 4 GND (power), 5 S OUT (out), 6 RT, 7 CT, 8 VCC (power)

## LM1851N
designator U?
Ground Fault Interrupter; PartNumber: LM1851N; Manufacturer: National Semiconductor; CompType: Analog IC; PackageTopMarking: NSUZXYTT*LM*1851N; Published: 4-Dec-2008; DatasheetVersion: Jun-1992; PackageVersion: revG, May-2006; PackageReference: N08E; Publisher: Altium Limited; PackageDescription: MDIP, .365 x .250 x .130in, 8 Lead, .100in Pitch; PinCount: 8; DigiKeyPartNumber: LM1851N-ND; Code_JEDEC: MS-001-BA; ComponentLink1Description: LM1851 Datasheet; ComponentLink1URL: http://www.national.com/ds.cgi/LM/LM1851.pdf; ComponentLink2Description: LM1851 Web Page; ComponentLink2URL: http://www.national.com/pf/LM/LM1851.html; ComponentLink3Description: N08E package page; ComponentLink3URL: http://www.national.com/packaging/folders/n08e.html
footprint N08E (DIP, 8-Leads, Row Spacing 7.62mm, Pitch 2.54mm, Body 9.91x6.35mm)
pins: 1 SCR TRIG (out), 2 IN- (in), 3 IN+ (in), 4 GND (power), 5 S OUT (out), 6 RT, 7 CT, 8 VCC (power)

## LM3046M
designator U?
Transistor Array; PartNumber: LM3046M; Manufacturer: National Semiconductor; CompType: Analog IC; PackageTopMarking: NSUZXYTT*LM3046M; Published: 4-Dec-2008; DatasheetVersion: Jul-1999; PackageVersion: revJ, Jan-1996; PackageReference: M14A; Publisher: Altium Limited; PackageDescription: Molded Package S.O., .150in Wide, 14 Lead; PinCount: 14; DigiKeyPartNumber: LM3046M-ND; Code_JEDEC: MS-012AB; Code_IPC: SOIC127P600-14; ComponentLink1Description: LM3046 Datasheet; ComponentLink1URL: http://www.national.com/ds.cgi/LM/LM3046.pdf; ComponentLink2Description: LM3046 Web Page; ComponentLink2URL: http://www.national.com/pf/LM/LM3046.html; ComponentLink3Description: M14A package page; ComponentLink3URL: http://www.national.com/packaging/folders/m14a.html
footprint M14A_N (SOIC, 14-Leads, Body 8.6x3.9mm, Pitch 1.27mm, IPC Medium Density)
footprint M14A_L (SOIC, 14-Leads, Body 8.6x3.9mm, Pitch 1.27mm, IPC High Density)
footprint M14A_M (SOIC, 14-Leads, Body 8.6x3.9mm, Pitch 1.27mm, IPC Low Density)
part A pins: 1 C1, 2 B1, 3 E1_2, 4 B2, 5 C2
part B pins: 6 B3, 7 E3, 8 C3
part C pins: 9 B4, 10 E4, 11 C4
part D pins: 12 B5, 13 E5, 14 C5

## LM3046MX
designator U?
Transistor Array; PartNumber: LM3046MX; Manufacturer: National Semiconductor; CompType: Analog IC; PackageTopMarking: NSUZXYTT*LM3046M; Published: 4-Dec-2008; DatasheetVersion: Jul-1999; PackageVersion: revJ, Jan-1996; PackageReference: M14A; Publisher: Altium Limited; PackageDescription: Molded Package S.O., .150in Wide, 14 Lead; PinCount: 14; DigiKeyPartNumber: LM3046MX-ND; Code_JEDEC: MS-012AB; Code_IPC: SOIC127P600-14; ComponentLink1Description: LM3046 Datasheet; ComponentLink1URL: http://www.national.com/ds.cgi/LM/LM3046.pdf; ComponentLink2Description: LM3046 Web Page; ComponentLink2URL: http://www.national.com/pf/LM/LM3046.html; ComponentLink3Description: M14A package page; ComponentLink3URL: http://www.national.com/packaging/folders/m14a.html
footprint M14A_N (SOIC, 14-Leads, Body 8.6x3.9mm, Pitch 1.27mm, IPC Medium Density)
footprint M14A_L (SOIC, 14-Leads, Body 8.6x3.9mm, Pitch 1.27mm, IPC High Density)
footprint M14A_M (SOIC, 14-Leads, Body 8.6x3.9mm, Pitch 1.27mm, IPC Low Density)
part A pins: 1 C1, 2 B1, 3 E1_2, 4 B2, 5 C2
part B pins: 6 B3, 7 E3, 8 C3
part C pins: 9 B4, 10 E4, 11 C4
part D pins: 12 B5, 13 E5, 14 C5

## LM3480IM3X-3.3
designator U?
100 mA, SOT-23, Quasi Low-Dropout Linear Voltage Regulator; PartNumber: LM3480IM3X-3.3; Manufacturer: National Semiconductor; CompType: Analog IC; PackageTopMarking: L0A*XTT; Published: 4-Dec-2008; DatasheetVersion: Mar-2005; PackageVersion: revB, Mar-2003; PackageReference: MF03A; Publisher: Altium Limited; PackageDescription: Molded SOT-23, .115 x .051 x .037in Body, 3 Lead, .075 in Pitch; PinCount: 3; DigiKeyPartNumber: LM3480IM3-3.3CT-ND; ComponentLink1Description: LM3480 Datasheet; ComponentLink1URL: http://www.national.com/ds.cgi/LM/LM3480.pdf; ComponentLink2Description: LM3480 Web Page; ComponentLink2URL: http://www.national.com/pf/LM/LM3480.html; ComponentLink3Description: MF03A package page; ComponentLink3URL: http://www.national.com/packaging/folders/mf03a.html
footprint MF03A_N (SOT23, 3-Leads, Body 2.9x1.3mm, Pitch 0.95mm, Lead Span 2.4mm, IPC Medium Density)
footprint MF03A_L (SOT23, 3-Leads, Body 2.9x1.3mm, Pitch 0.95mm, Lead Span 2.4mm, IPC High Density)
footprint MF03A_M (SOT23, 3-Leads, Body 2.9x1.3mm, Pitch 0.95mm, Lead Span 2.4mm, IPC Low Density)
pins: 1 OUT (power), 2 IN (power), 3 GND (power)

## LM3480IM3X-5.0
designator U?
100 mA, SOT-23, Quasi Low-Dropout Linear Voltage Regulator; PartNumber: LM3480IM3X-5.0; Manufacturer: National Semiconductor; CompType: Analog IC; PackageTopMarking: L0B*XTT; Published: 4-Dec-2008; DatasheetVersion: Mar-2005; PackageVersion: revB, Mar-2003; PackageReference: MF03A; Publisher: Altium Limited; PackageDescription: Molded SOT-23, .115 x .051 x .037in Body, 3 Lead, .075 in Pitch; PinCount: 3; DigiKeyPartNumber: LM3480IM3-5.0CT-ND; ComponentLink1Description: LM3480 Datasheet; ComponentLink1URL: http://www.national.com/ds.cgi/LM/LM3480.pdf; ComponentLink2Description: LM3480 Web Page; ComponentLink2URL: http://www.national.com/pf/LM/LM3480.html; ComponentLink3Description: MF03A package page; ComponentLink3URL: http://www.national.com/packaging/folders/mf03a.html
footprint MF03A_N (SOT23, 3-Leads, Body 2.9x1.3mm, Pitch 0.95mm, Lead Span 2.4mm, IPC Medium Density)
footprint MF03A_L (SOT23, 3-Leads, Body 2.9x1.3mm, Pitch 0.95mm, Lead Span 2.4mm, IPC High Density)
footprint MF03A_M (SOT23, 3-Leads, Body 2.9x1.3mm, Pitch 0.95mm, Lead Span 2.4mm, IPC Low Density)
pins: 1 OUT (power), 2 IN (power), 3 GND (power)

## LM3480IM3X-12
designator U?
100 mA, SOT-23, Quasi Low-Dropout Linear Voltage Regulator; PartNumber: LM3480IM3X-12; Manufacturer: National Semiconductor; CompType: Analog IC; PackageTopMarking: L0C*XTT; Published: 4-Dec-2008; DatasheetVersion: Mar-2005; PackageVersion: revB, Mar-2003; PackageReference: MF03A; Publisher: Altium Limited; PackageDescription: Molded SOT-23, .115 x .051 x .037in Body, 3 Lead, .075 in Pitch; PinCount: 3; DigiKeyPartNumber: LM3480IM3X-12CT-ND; ComponentLink1Description: LM3480 Datasheet; ComponentLink1URL: http://www.national.com/ds.cgi/LM/LM3480.pdf; ComponentLink2Description: LM3480 Web Page; ComponentLink2URL: http://www.national.com/pf/LM/LM3480.html; ComponentLink3Description: MF03A package page; ComponentLink3URL: http://www.national.com/packaging/folders/mf03a.html
footprint MF03A_N (SOT23, 3-Leads, Body 2.9x1.3mm, Pitch 0.95mm, Lead Span 2.4mm, IPC Medium Density)
footprint MF03A_L (SOT23, 3-Leads, Body 2.9x1.3mm, Pitch 0.95mm, Lead Span 2.4mm, IPC High Density)
footprint MF03A_M (SOT23, 3-Leads, Body 2.9x1.3mm, Pitch 0.95mm, Lead Span 2.4mm, IPC Low Density)
pins: 1 OUT (power), 2 IN (power), 3 GND (power)

## LM3480IM3X-15
designator U?
100 mA, SOT-23, Quasi Low-Dropout Linear Voltage Regulator; PartNumber: LM3480IM3X-15; Manufacturer: National Semiconductor; CompType: Analog IC; PackageTopMarking: L0D*XTT; Published: 4-Dec-2008; DatasheetVersion: Mar-2005; PackageVersion: revB, Mar-2003; PackageReference: MF03A; Publisher: Altium Limited; PackageDescription: Molded SOT-23, .115 x .051 x .037in Body, 3 Lead, .075 in Pitch; PinCount: 3; DigiKeyPartNumber: LM3480IM3-15CT-ND; ComponentLink1Description: LM3480 Datasheet; ComponentLink1URL: http://www.national.com/ds.cgi/LM/LM3480.pdf; ComponentLink2Description: LM3480 Web Page; ComponentLink2URL: http://www.national.com/pf/LM/LM3480.html; ComponentLink3Description: MF03A package page; ComponentLink3URL: http://www.national.com/packaging/folders/mf03a.html
footprint MF03A_N (SOT23, 3-Leads, Body 2.9x1.3mm, Pitch 0.95mm, Lead Span 2.4mm, IPC Medium Density)
footprint MF03A_L (SOT23, 3-Leads, Body 2.9x1.3mm, Pitch 0.95mm, Lead Span 2.4mm, IPC High Density)
footprint MF03A_M (SOT23, 3-Leads, Body 2.9x1.3mm, Pitch 0.95mm, Lead Span 2.4mm, IPC Low Density)
pins: 1 OUT (power), 2 IN (power), 3 GND (power)

## LM8300IMT9B
designator U?
Four Wire Resistive Touchscreen Controller with Brownout; PartNumber: LM8300IMT9B; Manufacturer: National Semiconductor; CompType: Analog IC; PackageTopMarking: NS2ZXYTT*LM8300IMT9; Published: 4-Dec-2008; DatasheetVersion: Dec-2003; PackageVersion: revE, Apr-2003; PackageReference: MTD48; Publisher: Altium Limited; PackageDescription: Molded TSSOP, Jedec, 12.5 x 6.1 x 0.9mm Body, 48 Lead, 0.50mm Pitch; PinCount: 48; DigiKeyPartNumber: LM8300IMT9B-ND; Code_JEDEC: MO-153-ED; ComponentLink1Description: LM8300 Datasheet; ComponentLink1URL: http://www.national.com/ds.cgi/LM/LM8300.pdf; ComponentLink2Description: LM8300 Web Page; ComponentLink2URL: http://www.national.com/pf/LM/LM8300.html; ComponentLink3Description: MTD48 package page; ComponentLink3URL: http://www.national.com/packaging/folders/mtd48.html
footprint MTD48_N (TSSOP, 48-Leads, Body 12.5x6.1mm, Pitch 0.5mm, IPC Medium Density)
footprint MTD48_L (TSSOP, 48-Leads, Body 12.5x6.1mm, Pitch 0.5mm, IPC High Density)
footprint MTD48_M (TSSOP, 48-Leads, Body 12.5x6.1mm, Pitch 0.5mm, IPC Low Density)
part A pins: 1 ~{RESET} (in), 2 DTR (in), 3 WD_OUT (out), 9 OSC_OUT (out), 10 OSC_IN (in), 13 UART_TX (out), 14 UART_RX (in), 15 ~{SHUTDOWN} (in), 18 WAKE-UP (in), 19 X+ (io), 20 Y- (io), 21 X- (io), 22 Y+ (io), 25 FILT_OUT (out), 26 FILT_IN (in), 27 GND (power), 28 AGND (power), 31 AVCC (power), 32 VCC (power), 41 LED (out)
part B pins: 4 NC, 5 NC, 6 NC, 7 NC, 8 NC, 11 NC, 12 NC, 16 NC, 17 NC, 23 NC, 24 NC, 29 NC, 30 NC, 33 NC, 34 NC, 35 NC, 36 NC, 37 NC, 38 NC, 39 NC, 40 NC, 42 NC, 43 NC, 44 NC, 45 NC, 46 NC, 47 NC, 48 NC

## LM8500IMT9B
designator U?
Four Wire Resistive Touchscreen Controller with Brownout; PartNumber: LM8500IMT9B; Manufacturer: National Semiconductor; CompType: Analog IC; PackageTopMarking: NS2ZXYTT*LM8500IMT9; Published: 4-Dec-2008; DatasheetVersion: Dec-2003; PackageVersion: revE, Apr-2003; PackageReference: MTD48; Publisher: Altium Limited; PackageDescription: Molded TSSOP, Jedec, 12.5 x 6.1 x 0.9mm Body, 48 Lead, 0.50mm Pitch; PinCount: 48; DigiKeyPartNumber: LM8500IMT9B-ND; Code_JEDEC: MO-153-ED; ComponentLink1Description: LM8500 Datasheet; ComponentLink1URL: http://www.national.com/ds.cgi/LM/LM8500.pdf; ComponentLink2Description: LM8500 Web Page; ComponentLink2URL: http://www.national.com/pf/LM/LM8500.html; ComponentLink3Description: MTD48 package page; ComponentLink3URL: http://www.national.com/packaging/folders/mtd48.html
footprint MTD48_N (TSSOP, 48-Leads, Body 12.5x6.1mm, Pitch 0.5mm, IPC Medium Density)
footprint MTD48_L (TSSOP, 48-Leads, Body 12.5x6.1mm, Pitch 0.5mm, IPC High Density)
footprint MTD48_M (TSSOP, 48-Leads, Body 12.5x6.1mm, Pitch 0.5mm, IPC Low Density)
part A pins: 1 ~{RESET} (in), 2 DTR (in), 3 WD_OUT (out), 4 CLK_SET (in), 9 OSC_OUT (out), 10 OSC_IN (in), 13 UART_TX (out), 14 UART_RX (in), 15 ~{SHUTDOWN} (in), 18 WAKE-UP (in), 19 X+ (io), 20 Y- (io), 21 X- (io), 22 Y+ (io), 25 FILT_OUT (out), 26 FILT_IN (in), 27 GND (power), 28 AGND (power), 31 AVCC (power), 32 VCC (power), 41 LED (out)
part B pins: 5 NC, 6 NC, 7 NC, 8 NC, 11 NC, 12 NC, 16 NC, 17 NC, 23 NC, 24 NC, 29 NC, 30 NC, 33 NC, 34 NC, 35 NC, 36 NC, 37 NC, 38 NC, 39 NC, 40 NC, 42 NC, 43 NC, 44 NC, 45 NC, 46 NC, 47 NC, 48 NC

## LM9044VX
designator U?
Lambda Sensor Interface Amplifier; PartNumber: LM9044VX; Manufacturer: National Semiconductor; CompType: Analog IC; PackageTopMarking: NSUZXYTT*LM9044V; Published: 4-Dec-2008; DatasheetVersion: Nov-2001; PackageVersion: revL, Dec-1993; PackageReference: V20A; Publisher: Altium Limited; PackageDescription: Plastic Chip Carrier, Sq., .050in Pitch, 20 Lead; PinCount: 20; DigiKeyPartNumber: LM9044VX-ND; Code_JEDEC: MO-047-AA; Code_IPC: PLCC-20; ComponentLink1Description: LM9044 Datasheet; ComponentLink1URL: http://www.national.com/ds.cgi/LM/LM9044.pdf; ComponentLink2Description: LM9044 Web Page; ComponentLink2URL: http://www.national.com/pf/LM/LM9044.html; ComponentLink3Description: V20A package page; ComponentLink3URL: http://www.national.com/packaging/folders/v20a.html
footprint V20A_N (Leaded Chip Carrier, 20-Leads, Body 9x9mm, Pitch 1.27mm, IPC Medium Density)
footprint V20A_L (Leaded Chip Carrier, 20-Leads, Body 9x9mm, Pitch 1.27mm, IPC High Density)
footprint V20A_M (Leaded Chip Carrier, 20-Leads, Body 9x9mm, Pitch 1.27mm, IPC Low Density)
pins: 1 TRIM, 2 GND (power), 3 TRIM, 4 TRIM, 5 -IN (in), 6 TRIM, 7 +IN (in), 8 TRIM, 9 TRIM, 10 TRIM, 11 TRIM, 12 VOUT (out), 13 TRIM, 14 TRIM, 15 RF, 16 TRIM, 17 VCC (power), 18 TRIM, 19 TRIM, 20 VREF (in)

## LM9061MX
designator U?
Power MOSFET Driver with Lossless Protection; PartNumber: LM9061MX; Manufacturer: National Semiconductor; CompType: Analog IC; PackageTopMarking: NSZXTT*LM90*61M; Published: 4-Dec-2008; DatasheetVersion: Aug-2006; PackageVersion: revL, Sep-2006; PackageReference: M08A; Publisher: Altium Limited; PackageDescription: SOIC Narrow, 4.9 x 3.9 x 1.45mm, 8 Lead, 1.27mm Pitch; PinCount: 8; DigiKeyPartNumber: LM9061MX-ND; Code_JEDEC: MS-012-AA; Code_IPC: SOIC127P600-8; ComponentLink1Description: LM9061 Datasheet; ComponentLink1URL: http://www.national.com/ds.cgi/LM/LM9061.pdf; ComponentLink2Description: LM9061 Web Page; ComponentLink2URL: http://www.national.com/pf/LM/LM9061.html; ComponentLink3Description: M08A package page; ComponentLink3URL: http://www.national.com/packaging/folders/m08a.html
footprint M08A_N (SOIC, 8-Leads, Body 4.9x3.9mm, Pitch 1.27mm, IPC Medium Density)
footprint M08A_L (SOIC, 8-Leads, Body 4.9x3.9mm, Pitch 1.27mm, IPC High Density)
footprint M08A_M (SOIC, 8-Leads, Body 4.9x3.9mm, Pitch 1.27mm, IPC Low Density)
pins: 1 SENSE (in), 2 THR (in), 3 GND (power), 4 OUT (out), 5 VCC (power), 6 IREF, 7 ON/OFF (in), 8 DELAY

## LM9074MX
designator U?
System Voltage Regulator with Keep-Alive ON/OFF Control; PartNumber: LM9074MX; Manufacturer: National Semiconductor; CompType: Analog IC; PackageTopMarking: NSUZXYTT*LM9074M; Published: 4-Dec-2008; DatasheetVersion: Nov-2005; PackageVersion: revJ, Jan-1996; PackageReference: M14A; Publisher: Altium Limited; PackageDescription: Molded Package S.O., .150in Wide, 14 Lead; PinCount: 14; DigiKeyPartNumber: LM9074MX-ND; Code_JEDEC: MS-012AB; Code_IPC: SOIC127P600-14; ComponentLink1Description: LM9074 Datasheet; ComponentLink1URL: http://www.national.com/ds.cgi/LM/LM9074.pdf; ComponentLink2Description: LM9074 Web Page; ComponentLink2URL: http://www.national.com/pf/LM/LM9074.html; ComponentLink3Description: M14A package page; ComponentLink3URL: http://www.national.com/packaging/folders/m14a.html
footprint M14A_N (SOIC, 14-Leads, Body 8.6x3.9mm, Pitch 1.27mm, IPC Medium Density)
footprint M14A_L (SOIC, 14-Leads, Body 8.6x3.9mm, Pitch 1.27mm, IPC High Density)
footprint M14A_M (SOIC, 14-Leads, Body 8.6x3.9mm, Pitch 1.27mm, IPC Low Density)
pins: 1 VIN (power), 2 NC, 3 GND (power), 4 GND (power), 5 GND (power), 6 ON/~{OFF} (in), 7 ~{RESET} (out), 8 C DELAY, 9 KEEP ALIVE (in), 10 GND (power), 11 GND (power), 12 GND (power), 13 VOUT (power), 14 GND (power)

## LMC555CBPX
designator U?
CMOS Timer; PartNumber: LMC555CBPX; Manufacturer: National Semiconductor; CompType: Analog IC; PackageTopMarking: XVF*I 1; Published: 4-Dec-2008; DatasheetVersion: May-2006; PackageVersion: revC, Feb-2002; PackageReference: BPA08EFB; Publisher: Altium Limited; PackageDescription: Micro SMD, 8 Bump, 0.5mm Pitch; PinCount: 8; DigiKeyPartNumber: LMC555CBPX-ND; Code_JEDEC: MO-211-BC; ComponentLink1Description: LMC555 Datasheet; ComponentLink1URL: http://www.national.com/ds.cgi/LM/LMC555.pdf; ComponentLink2Description: LMC555 Web Page; ComponentLink2URL: http://www.national.com/pf/LM/LMC555.html; ComponentLink3Description: BPA08EFB package page; ComponentLink3URL: http://www.national.com/packaging/folders/bpa08efb.html
footprint BPA08EFB (Micro SMD, 8-Leads, Body 1.41x1.39mm, Pitch 0.5mm, NSC Recommended)
pins: A1 DIS (oc), A2 V+ (power), A3 GND (power), B1 THR (in), B3 ~{TRIG} (in), C1 CVOLT, C2 ~{RST} (in), C3 OUT (out)